# EAGLE library part TMD27711 (library circuit_tree)
IC
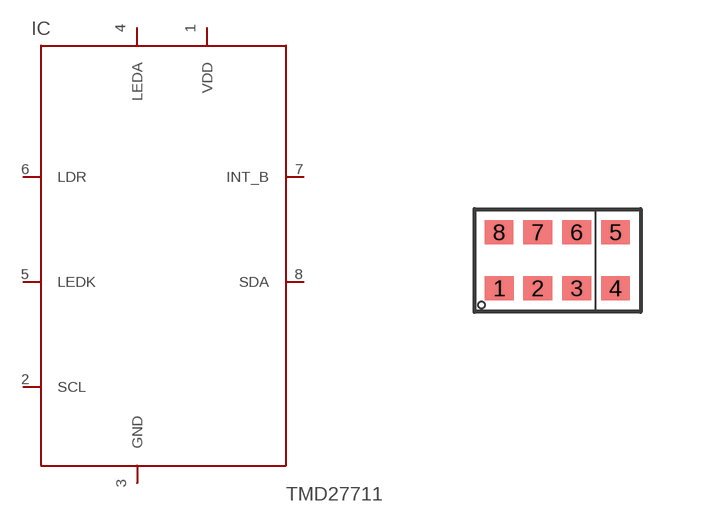
[diagram p4: symbol with the pads of SMD-8; footprint SMD-8]

Designator prefix IC

## TMD27711  [SMD-8]
1  VDD  pas
2  SCL  pas
3  GND  pas
4  LEDA  pas
5  LEDK  pas
6  LDR  pas
7  INT_B  pas
8  SDA  pas

## Footprint SMD-8 (pad centres in mm)
smd 0.72 x 0.6: 1 -1.45,-0.7; 2 -0.485,-0.7; 3 0.485,-0.7; 4 1.455,-0.7; 5 1.455,0.7; 6 0.485,0.7; 7 -0.485,0.7; 8 -1.455,0.7